# Altium schematic symbol library digital_power.SCHLIB: 6 symbols
Pins are listed as number, name and electrical type; pins without a type are passive.

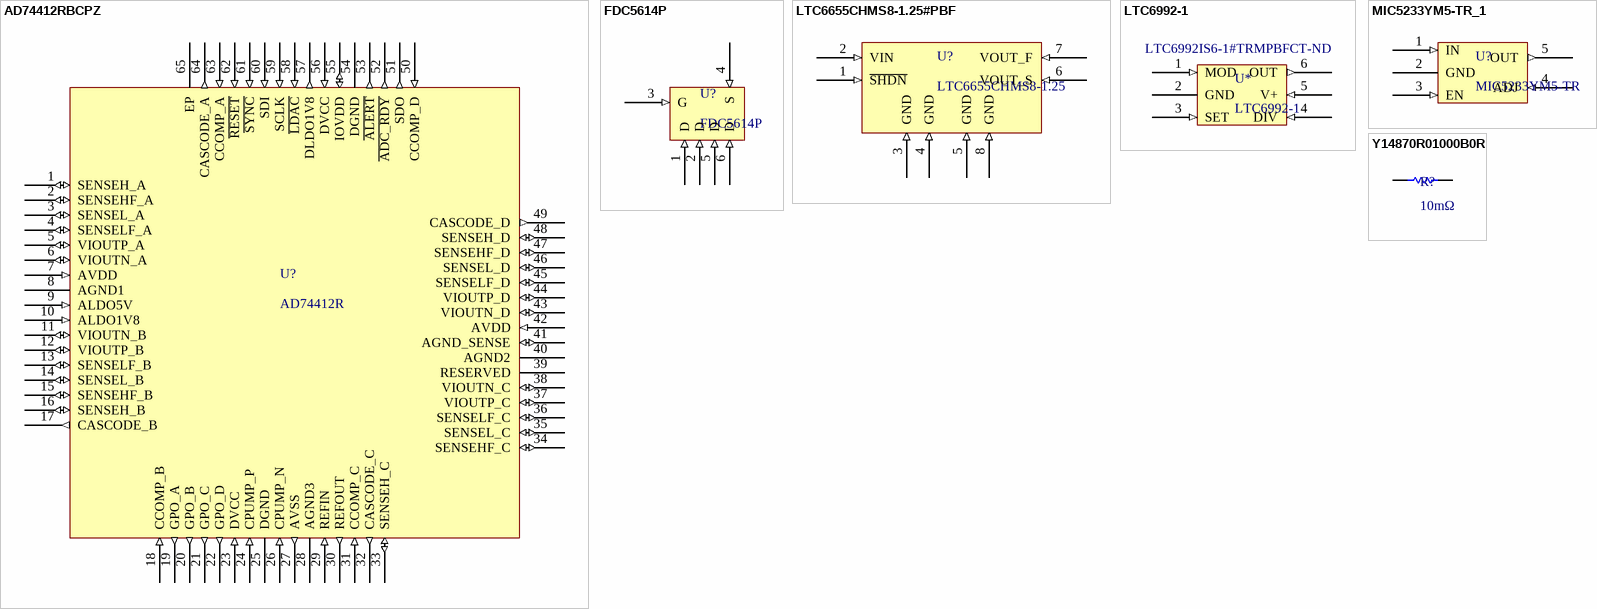
[diagram p0: symbols AD74412RBCPZ to Y14870R01000B0R]

## AD74412RBCPZ
designator U?, comment AD74412R
Manufacturer 1: Analog Devices; Manufacturer Part Number 1: AD74412RBCPZ; Supplier 1: Digi-Key; Stock 1: 0; Pricing 1: 1=15.06000, 10=13.84000, 25=13.26640, 100=11.68870, 250=11.11504, 500=10.39796, 1000=9.53743 (USD); RoHS: No; Supplier Part Number 1: 505-AD74412RBCPZ-ND
footprint ADI-CP-64-4_L (QFN, 64-Leads, Body 9x9mm, Pitch 0.5mm, Thermal Pad 6.2x6.2mm, IPC High Density)
footprint ADI-CP-64-4_M (QFN, 64-Leads, Body 9x9mm, Pitch 0.5mm, Thermal Pad 6.2x6.2mm, IPC Low Density)
footprint ADI-CP-64-4_N (QFN, 64-Leads, Body 9x9mm, Pitch 0.5mm, Thermal Pad 6.2x6.2mm, IPC Medium Density)
pins: 1 SENSEH_A (io), 2 SENSEHF_A (io), 3 SENSEL_A (io), 4 SENSELF_A (io), 5 VIOUTP_A (io), 6 VIOUTN_A (io), 7 AVDD (in), 8 AGND1 (power), 9 ALDO5V (in), 10 ALDO1V8 (in), 11 VIOUTN_B (io), 12 VIOUTP_B (io), 13 SENSELF_B (io), 14 SENSEL_B (io), 15 SENSEHF_B (io), 16 SENSEH_B (io), 17 CASCODE_B (out), 18 CCOMP_B (in), 19 GPO_A (out), 20 GPO_B (out), 21 GPO_C (out), 22 GPO_D (out), 23 DVCC (in), 24 CPUMP_P (in), 25 DGND (power), 26 CPUMP_N (in), 27 AVSS (out), 28 AGND3 (power), 29 REFIN (in), 30 REFOUT (out), 31 CCOMP_C (in), 32 CASCODE_C (out), 33 SENSEH_C (io), 34 SENSEHF_C (io), 35 SENSEL_C (io), 36 SENSELF_C (io), 37 VIOUTP_C (io), 38 VIOUTN_C (io), 39 RESERVED (power), 40 AGND2 (power), 41 AGND_SENSE (io), 42 AVDD (in), 43 VIOUTN_D (io), 44 VIOUTP_D (io), 45 SENSELF_D (io), 46 SENSEL_D (io), 47 SENSEHF_D (io), 48 SENSEH_D (io), 49 CASCODE_D (out), 50 CCOMP_D (in), 51 SDO (out), 52 ~{ADC_RDY} (out), 53 ~{ALERT} (out), 54 DGND (power), 55 IOVDD (io), 56 DVCC (in), 57 DLDO1V8 (out), 58 ~{LDAC} (in), 59 SCLK (in), 60 SDI (in), 61 ~{SYNC} (in), 62 ~{RESET} (in), 63 CCOMP_A (in), 64 CASCODE_A (out), 65 EP (power)

## FDC5614P
designator U?
MOSFET P-CH 60V 3A SSOT-6; Manufacturer 1: ON Semiconductor / Fairchild; Rds On Max: 105mR; Input Capacitance: 759pF; Rise Time: 10ns; Max Power Dissipation: 1.6W; Turn-Off Delay Time: 19ns; Element Configuration: Single; Drain to Source Breakdown Voltage: -60V; Gate to Source Voltage (Vgs): 20V; Number of Elements: 1; Turn-On Delay Time: 7ns; Nominal Vgs: -1.6V; Current Rating: -3A; Current: 2A; Supplier 1: Digi-Key; Manufacturer Part Number 1: FDC5614P; Stock 1: 81040; Pricing 1: 1=0.60000, 10=0.51300, 100=0.38330, 500=0.30116, 1000=0.23271 (USD); RoHS: Yes; Mount: Surface Mount; Case/Package: SOT-23-6; Number of Pins: 6; Contact Plating: Tin,Matte; Min Operating Temperature: -55°C; Max Operating Temperature: 150°C; Packaging: Tape and Reel; Package Quantity: 1; Drain to Source Voltage (Vdss): 60V; Continuous Drain Current (ID): 3A; Fall Time: 10ns; Drain to Source Resistance: 105mR; Power Dissipation: 1.6W; Voltage Rating (DC): -60V; On-State Resistance: 105MR; Threshold Voltage: -1.6V; Voltage: 60V; Length: 3mm; Height: 1mm; Width: 1.7mm; Radiation Hardening: No; Lead Free: Lead Free; REACH SVHC: No SVHC; ComponentLink1URL: https://datasheet.ciiva.com/932/fdc5614p-932400.pdf?src-supplier=Digi-Key; ComponentLink1Description: https://datasheet.ciiva.com/932/fdc5614p-932400.pdf?src-supplier=Digi-Key; ComponentLink2URL: https://datasheet.ciiva.com/22655/11835-22655267.pdf?src-supplier=Element14; ComponentLink2Description: https://datasheet.ciiva.com/22655/11835-22655267.pdf?src-supplier=Element14; ComponentLink3URL: https://datasheet.ciiva.com/34302/1222393-34302115.pdf?src-supplier=Jameco; ComponentLink3Description: https://datasheet.ciiva.com/34302/1222393-34302115.pdf?src-supplier=Jameco; ComponentLink4URL: https://datasheet.ciiva.com/932/fdc5614p-932401.pdf?src-supplier=Digi-Key; ComponentLink4Description: https://datasheet.ciiva.com/932/fdc5614p-932401.pdf?src-supplier=Digi-Key; ComponentLink5URL: https://datasheet.ciiva.com/6172/fdc5614p-6172565.pdf?src-supplier=Farnell; ComponentLink5Description: https://datasheet.ciiva.com/6172/fdc5614p-6172565.pdf?src-supplier=Farnell; ComponentLink6URL: https://datasheet.ciiva.com/16741/fdc5614p-16741301.pdf?src-supplier=Future+Electronics; ComponentLink6Description: https://datasheet.ciiva.com/16741/fdc5614p-16741301.pdf?src-supplier=Future+Electronics; ComponentLink7URL: https://datasheet.ciiva.com/26144/fdc5614p-26144149.pdf?src-supplier=Avnet+Europe; ComponentLink7Description: https://datasheet.ciiva.com/26144/fdc5614p-26144149.pdf?src-supplier=Avnet+Europe; ComponentLink8URL: https://datasheet.ciiva.com/22681/11835-22681846.pdf?src-supplier=Element14; ComponentLink8Description: https://datasheet.ciiva.com/22681/11835-22681846.pdf?src-supplier=Element14; ComponentLink9URL: https://datasheet.ciiva.com/8115/fdc5614p-8115420.pdf?src-supplier=Avnet; ComponentLink9Description: https://datasheet.ciiva.com/8115/fdc5614p-8115420.pdf?src-supplier=Avnet; ComponentLink10URL: https://datasheet.ciiva.com/932/fdc5614p-932399.pdf?src-supplier=Digi-Key; ComponentLink10Description: https://datasheet.ciiva.com/932/fdc5614p-932399.pdf?src-supplier=Digi-Key; ComponentLink11URL: https://datasheet.ciiva.com/7967/fdc5614p-7967823.pdf?src-supplier=Element14; ComponentLink11Description: https://datasheet.ciiva.com/7967/fdc5614p-7967823.pdf?src-supplier=Element14; Supplier Part Number 1: FDC5614PCT-ND
footprint ONSC-CPH-6_V (SOT23, 6-Leads, Body 2.9x1.6mm, Pitch 0.95mm)
pins: 1 D (in), 2 D (in), 3 G (in), 4 S (in), 5 D (in), 6 D (in)

## LTC6655CHMS8-1.25#PBF
designator U?, comment LTC6655CHMS8-1.25
IC VREF SERIES 1.25V 8MSOP; Manufacturer 1: Analog Devices / Linear Technology; Manufacturer Part Number 1: LTC6655CHMS8-1.25#PBF; Tolerance: 0.05%; Number of Channels: 1; Temperature Coefficient: 5ppm/°C; Quiescent Current: 7mA; Output Current: 5mA; Supplier 1: Digi-Key; Stock 1: 452; Pricing 1: 1=7.80000, 25=5.18120, 100=4.28400 (USD); RoHS: Yes; Mount: Surface Mount; Case/Package: MSOP; Number of Pins: 8; Min Operating Temperature: -40°C; Max Operating Temperature: 125°C; Package Quantity: 50; Packaging: Rail/Tube; Output Voltage: 1.25V; Max Output Voltage: 1.25V; Reference Type: Series; Nominal Supply Current: 5mA; ComponentLink1URL: https://datasheet.ciiva.com/2006/28576-2006051.pdf?src-supplier=Digi-Key; ComponentLink1Description: https://datasheet.ciiva.com/2006/28576-2006051.pdf?src-supplier=Digi-Key; ComponentLink2URL: https://datasheet.ciiva.com/14152/ltc6655-eng-ds-14152023.pdf?src-supplier=Distrelec; ComponentLink2Description: https://datasheet.ciiva.com/14152/ltc6655-eng-ds-14152023.pdf?src-supplier=Distrelec; Supplier Part Number 1: LTC6655CHMS8-1.25#PBF-ND
footprint ADI-RM-8_L (SOP, 8-Leads, Body 3x3mm, Pitch 0.65mm, IPC High Density)
footprint ADI-RM-8_M (SOP, 8-Leads, Body 3x3mm, Pitch 0.65mm, IPC Low Density)
footprint ADI-RM-8_N (SOP, 8-Leads, Body 3x3mm, Pitch 0.65mm, IPC Medium Density)
pins: 1 ~{SHDN} (in), 2 VIN (in), 3 GND (in), 4 GND (in), 5 GND (in), 6 VOUT_S (in), 7 VOUT_F (in), 8 GND (in)

## LTC6992-1
designator U*  Supplier Part Number 1: LTC6992IS6-1#TRMPBFCT-ND
Oscillator, Silicon IC 3.81Hz ~ 1MHz TSOT-23-6; Manufacturer 1: Analog Devices; Manufacturer Part Number 1: LTC6992IS6-1#TRMPBF; Operating Supply Current: 365uA; Supplier 1: Digi-Key; Stock 1: 9940; Pricing 1: 1=4.57000, 25=3.03440, 100=2.50910, 250=2.38364 (USD); Mount: Surface Mount; Case/Package: SOT-23-6; Number of Pins: 23; Min Operating Temperature: -40°C; Max Operating Temperature: 85°C; Packaging: Tape and Reel; Package Quantity: 500; Frequency: 3.81Hz; Length: 2.9mm; Depth: 1.75mm; Radiation Hardening: No; Lead Free: Lead Free; ComponentLink1URL: https://datasheet.ciiva.com/15116/getdatasheetpartid-411031-15116193.pdf?src-supplier=Verical; ComponentLink1Description: https://datasheet.ciiva.com/15116/getdatasheetpartid-411031-15116193.pdf?src-supplier=Verical; ComponentLink2URL: https://datasheet.ciiva.com/6668/29337-6668309.pdf?src-supplier=Digi-Key; ComponentLink2Description: https://datasheet.ciiva.com/6668/29337-6668309.pdf?src-supplier=Digi-Key; ComponentLink3URL: https://datasheet.ciiva.com/6668/29337-6668312.pdf?src-supplier=Digi-Key; ComponentLink3Description: https://datasheet.ciiva.com/6668/29337-6668312.pdf?src-supplier=Digi-Key; ComponentLink4URL: https://datasheet.ciiva.com/6668/29337-6668316.pdf?src-supplier=Digi-Key; ComponentLink4Description: https://datasheet.ciiva.com/6668/29337-6668316.pdf?src-supplier=Digi-Key; ComponentLink5URL: http://datasheet.octopart.com/LTC6992IS6-1%23TRMPBF-Linear-Technology-datasheet-10978009.pdf?src-supplier=Linear+Technology; ComponentLink5Description: http://datasheet.octopart.com/LTC6992IS6-1%23TRMPBF-Linear-Technology-datasheet-10978009.pdf?src-supplier=Linear+Technology; ComponentLink6URL: http://sigma.octopart.com/57691988/technical_drawing/Linear-Technology-LTC6992IS6-1%23TRMPBF.pdf?src-supplier=Linear+Technology; ComponentLink6Description: http://sigma.octopart.com/57691988/technical_drawing/Linear-Technology-LTC6992IS6-1%23TRMPBF.pdf?src-supplier=Linear+Technology
footprint LT-S6-6-TSOT-23_L (SOT23, 6-Leads, Body 2.90x1.63mm, Pitch 0.95mm, IPC High Density)
footprint LT-S6-6-TSOT-23_M (SOT23, 6-Leads, Body 2.90x1.63mm, Pitch 0.95mm, IPC Low Density)
footprint LT-S6-6-TSOT-23_N (SOT23, 6-Leads, Body 2.90x1.63mm, Pitch 0.95mm, IPC Medium Density)
pins: 1 MOD (in), 2 GND (power), 3 SET (in), 4 DIV (in), 5 V+ (in), 6 OUT (out)

## MIC5233YM5-TR_1
designator U?, comment MIC5233YM5-TR
IC REG LDO ADJ .1A SOT23-5; Manufacturer 1: Microchip Micrel; Max Input Voltage: 36V; Min Input Voltage: 2.3V; Output Voltage: 20V; Output Type: Adjustable; Dropout Voltage: 270mV; Max Output Current: 100mA; Number of Outputs: 1; Min Output Voltage: 1.24V; Polarity: Positive; Output Voltage Accuracy: 1%; Supplier 1: Digi-Key; Manufacturer Part Number 1: MIC5233YM5-TR; Stock 1: 13352; Pricing 1: 1=1.20000, 25=1.00000, 100=0.91000 (USD); RoHS: Yes; Mount: Surface Mount; Case/Package: SOT-23; Number of Pins: 5; Min Operating Temperature: -40°C; Max Operating Temperature: 125°C; Packaging: Tape and Reel; Output Current: 100mA; Number of Regulators: 1; Max Output Voltage: 20V; Package Quantity: 1; Radiation Hardening: No; REACH SVHC: No SVHC; ComponentLink1URL: https://datasheet.ciiva.com/2044/mic5233-2044736.pdf?src-supplier=Digi-Key; ComponentLink1Description: https://datasheet.ciiva.com/2044/mic5233-2044736.pdf?src-supplier=Digi-Key; ComponentLink2URL: https://datasheet.ciiva.com/16374/mic5233-16374581.pdf?src-supplier=Future+Electronics; ComponentLink2Description: https://datasheet.ciiva.com/16374/mic5233-16374581.pdf?src-supplier=Future+Electronics; ComponentLink3URL: https://datasheet.ciiva.com/23773/1670787-23773077.pdf?src-supplier=Newark; ComponentLink3Description: https://datasheet.ciiva.com/23773/1670787-23773077.pdf?src-supplier=Newark; ComponentLink4URL: https://datasheet.ciiva.com/13026/mic5233-13026150.pdf?src-supplier=Mouser; ComponentLink4Description: https://datasheet.ciiva.com/13026/mic5233-13026150.pdf?src-supplier=Mouser; ComponentLink5URL: https://datasheet.ciiva.com/26890/getdatasheetpartid-111208-26890058.pdf?src-supplier=Verical; ComponentLink5Description: https://datasheet.ciiva.com/26890/getdatasheetpartid-111208-26890058.pdf?src-supplier=Verical; ComponentLink6URL: https://datasheet.ciiva.com/2044/mic5233-2044734.pdf?src-supplier=Digi-Key; ComponentLink6Description: https://datasheet.ciiva.com/2044/mic5233-2044734.pdf?src-supplier=Digi-Key; ComponentLink7URL: https://datasheet.ciiva.com/7993/1670787-7993422.pdf?src-supplier=Element14; ComponentLink7Description: https://datasheet.ciiva.com/7993/1670787-7993422.pdf?src-supplier=Element14; ComponentLink8URL: https://datasheet.ciiva.com/2044/mic5233-2044735.pdf?src-supplier=Digi-Key; ComponentLink8Description: https://datasheet.ciiva.com/2044/mic5233-2044735.pdf?src-supplier=Digi-Key; ComponentLink9URL: https://datasheet.ciiva.com/23772/1670787-23772959.pdf?src-supplier=Newark; ComponentLink9Description: https://datasheet.ciiva.com/23772/1670787-23772959.pdf?src-supplier=Newark; Supplier Part Number 1: 576-1507-1-ND
footprint MF05A_L (SOT23, 5-Leads, Body 2.9x1.6mm, Pitch 0.95mm, Lead Span 2.8mm, IPC High Density)
footprint MF05A_M (SOT23, 5-Leads, Body 2.9x1.6mm, Pitch 0.95mm, Lead Span 2.8mm, IPC Low Density)
footprint MF05A_N (SOT23, 5-Leads, Body 2.9x1.6mm, Pitch 0.95mm, Lead Span 2.8mm, IPC Medium Density)
pins: 1 IN (in), 2 GND (power), 3 EN (in), 4 ADJ (in), 5 OUT (out)

## Y14870R01000B0R
designator R?, comment 10mΩ
RES SMD 10 MOHM 0.1% 1W 2512; Manufacturer 1: Vishay Precision Group; Manufacturer Part Number 1: Y14870R01000B0R; Case-Metric: 6432; Value: 178.00 Ohm; Case-EIA: 2512; Tolerance: 1 %; Temperature Coefficient: 15ppm/°C; Technology: SMT; Power: 1 W; Supplier 1: Mouser; Stock 1: 17; Pricing 1: 1=20.37000, 10=18.52000, 25=17.13000, 50=16.20000, 100=15.74000, 250=14.35000, 500=13.42000, 1000=12.31000, 2500=11.48000 (USD); RoHS: Yes; Case/Package: 2512; Case Code (Metric): 6432; Case Code (Imperial): 2512; Min Operating Temperature: -65°C; Max Operating Temperature: 170°C; Packaging: Tape and Reel; Power Rating: 1W; Package Quantity: 1000; Composition: Metal Foil,Metal Strip; Number of Terminations: 4; Military Standard: Not; Max Power Dissipation: 1W; Features: Moisture Resistant; Length: 0.25inch; Height: 0.035inch; Width: 0.125inch; Depth: 3.18mm; Radiation Hardening: No; ComponentLink1URL: https://datasheet.ciiva.com/18594/csm-18594744.pdf?src-supplier=Digi-Key; ComponentLink1Description: https://datasheet.ciiva.com/18594/csm-18594744.pdf?src-supplier=Digi-Key; Supplier 2: Mouser; Manufacturer 2: Vishay Precision Group; Manufacturer Part Number 2: Y14870R01000B0R; Stock 2: 17; Pricing 2: 1=20.37000, 10=18.52000, 25=17.13000, 50=16.20000, 100=15.74000, 250=14.35000, 500=13.42000, 1000=12.31000, 2500=11.48000 (USD); Supplier Part Number 1: Y14870R01000B0R; Supplier Part Number 2: 71-CSM25120R0100BBT; Resistance: 10mΩ
footprint RESC2512(6432)_N (Chip Resistor, Body 6.4x3.2mm, IPC Medium Density)
footprint RESC2512(6432)_L (Chip Resistor, Body 6.4x3.2mm, IPC High Density)
footprint RESC2512(6432)_M (Chip Resistor, Body 6.4x3.2mm, IPC Low Density)
pins: 1, 2
1 alternate drawing of the same symbol